# Altium footprint library PTPSM863252RDXR.PcbLib: 2 footprints
Each footprint in its own frame and in the unit in brackets; x right, y up, seen from the top. Pads: shape width x height; smd on the part's side, far side on the other; paste and mask are expansions set on the pad; w line width, h text height; cw(c..) or ccw(c..) is an arc to the next point about the centre after c.
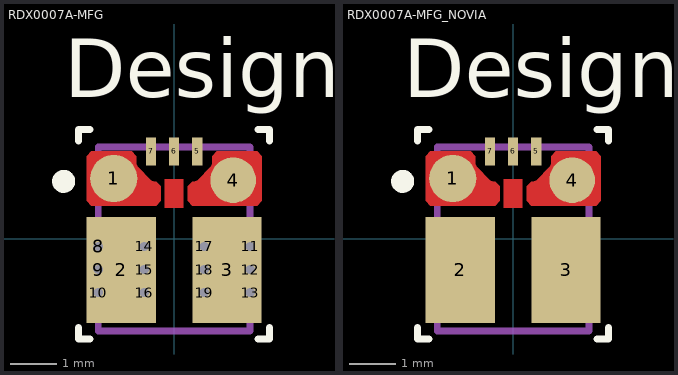
[diagram p0: the footprints below, top view; thin cyan lines are the x and y axes]

## RDX0007A-MFG [mm]
pads (19):
  round 1.025 smd paste-0.5 mask-0.495: 1(-1.312,1.312)
  rect 1.5x2.3 smd paste-1.137 mask-1.143: 2(-1.15,-0.675) 3(1.15,-0.675)
  round 0.991 smd paste-0.483 mask-0.483: 4(1.281,1.276)
  rect 0.22x0.6 smd paste+0 mask-0.292: 5(0.5,1.9) 6(0,1.9) 7(-0.5,1.9)
  round 0.5 hole 0.203 paste-0.25 mask-0.241: 8(-1.65,-0.165) 9(-1.65,-0.665) 10(-1.65,-1.165) 11(1.65,-0.165) 12(1.65,-0.665) 13(1.65,-1.165) 14(-0.65,-0.165) 15(-0.65,-0.665) 16(-0.65,-1.165) 17(0.65,-0.165) 18(0.65,-0.665) 19(0.65,-1.165)
Top Layer:
  region: -0.2,1.295 -0.2,0.675 0.2,0.675 0.2,1.295
  region: 1.9,0.825 1.9,1.8 1.8,1.9 0.925,1.9 0.825,1.8 0.825,1.634 0.796,1.563 0.507,1.274 0.436,1.245 0.39,1.245 0.29,1.145 0.29,0.825 0.39,0.725 1.8,0.725
  region: -1.9,0.825 -1.9,1.8 -1.8,1.9 -0.925,1.9 -0.825,1.8 -0.825,1.634 -0.796,1.563 -0.507,1.274 -0.436,1.245 -0.39,1.245 -0.29,1.145 -0.29,0.825 -0.39,0.725 -1.8,0.725
Top Overlay:
  circle w0.25: c-2.4,1.25 r0.125
  lines w0.15: -2.075,-1.925 -2.075,-2.175 -1.825,-2.175 ; -2.075,2.125 -2.075,2.375 -1.825,2.375 ; 1.825,-2.175 2.075,-2.175 2.075,-1.925 ; 1.825,2.375 2.075,2.375 2.075,2.125
  text "Designator1027" at -2.388,3.073 h1.27
  text ".Designator" at -3.492,-0.635 h1.27
Top Paste:
  drawing of 8 lines, arcs and shapes, not listed
Top Solder:
  drawing of 7 lines, arcs and shapes, not listed
Mechanical 13:
  lines w0.15: -1.65,-2 -1.65,2 1.65,2 1.65,-2 -1.65,-2
  text ".Designator" at -3.492,-0.635 h1.27

## RDX0007A-MFG_NOVIA [mm]
pads (7):
  round 1.025 smd paste-0.5 mask-0.495: 1(-1.312,1.312)
  rect 1.5x2.3 smd paste-1.137 mask-1.143: 2(-1.15,-0.675) 3(1.15,-0.675)
  round 0.991 smd paste-0.483 mask-0.483: 4(1.281,1.276)
  rect 0.22x0.6 smd paste+0 mask-0.292: 5(0.5,1.9) 6(0,1.9) 7(-0.5,1.9)
Top Layer:
  region: -0.2,1.295 -0.2,0.675 0.2,0.675 0.2,1.295
  region: -1.9,0.825 -1.9,1.8 -1.8,1.9 -0.925,1.9 -0.825,1.8 -0.825,1.634 -0.796,1.563 -0.507,1.274 -0.436,1.245 -0.39,1.245 -0.29,1.145 -0.29,0.825 -0.39,0.725 -1.8,0.725
  region: 1.9,0.825 1.9,1.8 1.8,1.9 0.925,1.9 0.825,1.8 0.825,1.634 0.796,1.563 0.507,1.274 0.436,1.245 0.39,1.245 0.29,1.145 0.29,0.825 0.39,0.725 1.8,0.725
Top Overlay:
  circle w0.25: c-2.4,1.25 r0.125
  lines w0.15: -2.075,-1.925 -2.075,-2.175 -1.825,-2.175 ; -2.075,2.125 -2.075,2.375 -1.825,2.375 ; 1.825,-2.175 2.075,-2.175 2.075,-1.925 ; 1.825,2.375 2.075,2.375 2.075,2.125
  text "Designator1026" at -2.388,3.073 h1.27
  text ".Designator" at -3.492,-0.635 h1.27
Top Paste:
  drawing of 8 lines, arcs and shapes, not listed
Top Solder:
  drawing of 7 lines, arcs and shapes, not listed
Mechanical 13:
  lines w0.15: -1.65,-2 1.65,-2 1.65,2 -1.65,2 -1.65,-2
  text ".Designator" at -3.492,-0.635 h1.27